# Altium schematic symbol library PVV.SchLib: 80 symbols
Pins are listed as number, name and electrical type; pins without a type are passive.

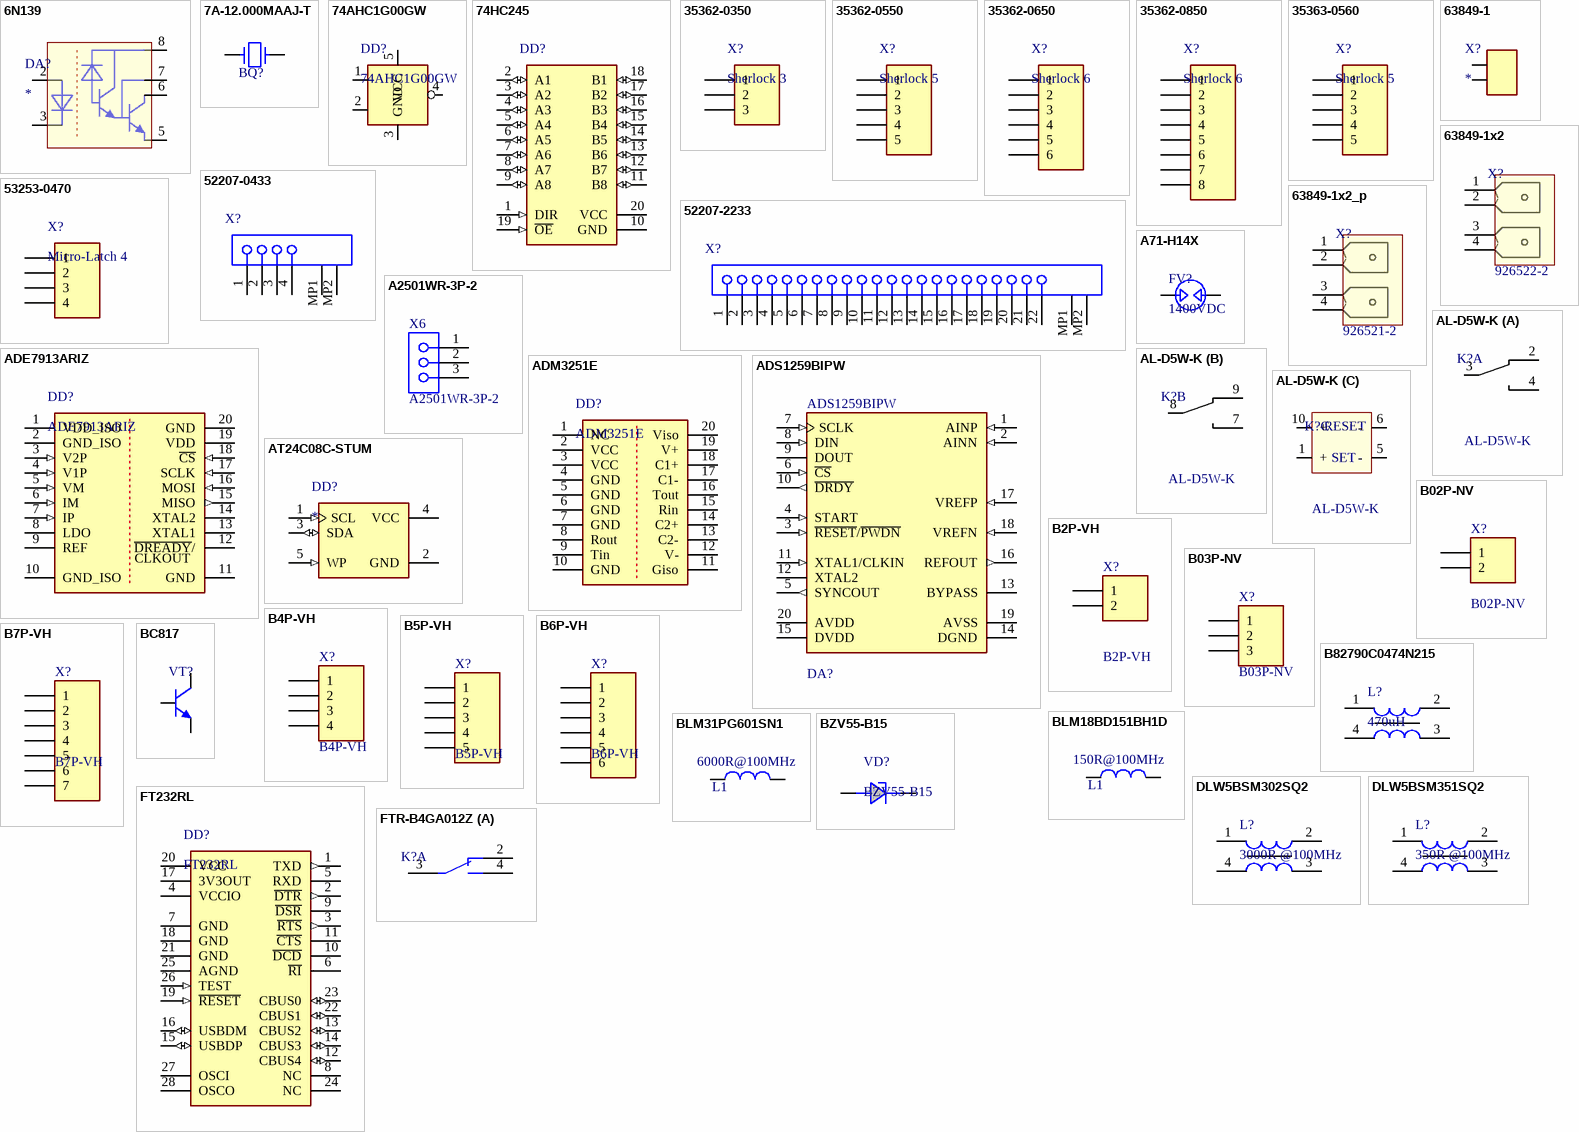
[diagram p0: symbols 6N139 to FTR-B4GA012Z]

## 6N139
designator DA?
Optocoupler  darlingron 5.3kV 100 kbit/s; Manufacturer: VISHAY; PartNumber: 6N139
footprint DIP8
pins: 2 ANODE, 3 CATHODE, 5 GND, 6 V0, 7 VB, 8 VCC

## 7A-12.000MAAJ-T
designator BQ?, comment 12MHz  (value not drawn)
12MHz Quartz Crystal 7A; PartNumber: 7A-12.000MAAJ-T; Manufacturer: TXC; Value: 12MHz
footprint DFN390P500X135-2N (DFN, 2-Leads, Body 3,20x5,00mm, Pitch 3,90mm, Quartz Crystal)
pins: 1, 2

## 74AHC1G00GW
designator DD?
2 Input NAND Gate; Manufacturer: neXperia; PartNumber: 74AHC1G00GW
footprint SOT353-1 (SOT353-1, 5-Leads, Body 2,05x2,13mm, Pitch 0,65mm, IPC Medium Density)
pins: 1, 2, 3 GND, 4, 5 VCC
text: &

## 74HC245
designator DD?
Octal Bus Transceivers With 3-State Outputs, PW0020A; Manufacturer: Texas Instruments; PartNumber: SN74HC245PW; VCC(Min)(V): 2; VCC(Max)(V): 6; Output Type: CMOS; ICC @ Nom Voltage(Max)(mA): 0.08; Bits(#): 8; F @ Nom Voltage(Max)(Mhz): 28; Rating: Catalog; Technology Family: HC; Schmitt Trigger: No; Output Drive (IOL/IOH)(Max)(mA): -6/6; tpd @ Nom Voltage(Max)(ns): 22; DatasheetVersion: SCLS131D; PackageReference: PW0020A; Input Type: CMOS; Operating Temperature Range(C): -40 to 85; Voltage(Nom)(V): 6
footprint PW0020A_M (SOP, 20-Leads, Body 6.6x4.5mm, Pitch 0.65mm, IPC Low Density)
pins: 1 DIR (in), 2 A1 (io), 3 A2 (io), 4 A3 (io), 5 A4 (io), 6 A5 (io), 7 A6 (io), 8 A7 (io), 9 A8 (io), 10 GND (power), 11 B8 (io), 12 B7 (io), 13 B6 (io), 14 B5 (io), 15 B4 (io), 16 B3 (io), 17 B2 (io), 18 B1 (io), 19 ~{OE} (in), 20 VCC (power)

## 35362-0350
designator X?, comment Sherlock 3
Sherlock 3 Top, 2A 125V 2mm; PartNumber: 35362-0350; Manufacturer: MOLEX
footprint 35362-0350 (Sherlock 3)
pins: 1, 2, 3

## 35362-0550
designator X?, comment Sherlock 5
Sherlock 5 Top, 2A 125V 2mm; PartNumber: 35362-0550; Manufacturer: MOLEX; ComponentLink1Description: Datasheet; ComponentLink1URL: \\NAS1\DataSheet\7534\PCBvert.pdf
footprint 35362-0550
pins: 1, 2, 3, 4, 5

## 35362-0650
designator X?, comment Sherlock 6
Sherlock 6 Top, 2A 125V 2mm; PartNumber: 35362-0650; Manufacturer: MOLEX
footprint 35362-0650 (Sherlock 6 конт LS=2 2A 125V PCB)
pins: 1, 2, 3, 4, 5, 6

## 35362-0850
designator X?, comment Sherlock 6
Sherlock 8 Top, 2A 125V 2mm; PartNumber: 35362-0850; Manufacturer: MOLEX
footprint 35362-0850 (Sherlock 8 конт LS=2 2A 125V PCB)
pins: 1, 2, 3, 4, 5, 6, 7, 8

## 35363-0560
designator X?, comment Sherlock 5
Sherlock 5 Side, 2A 125V 2mm; PartNumber: 35363-0560; Manufacturer: MOLEX; ComponentLink1Description: Datasheet; ComponentLink1URL: \\NAS1\DataSheet\7854\0353630560_PCB_HEADERS.pdf; ComponentLink2URL: \\NAS1\DataSheet\7854\353630560_sd.pdf; ComponentLink2Description: Datasheet2
footprint SOD-123 (Molded Diode, 2-Leads, Body 3,71x1,60mm)
pins: 1, 2, 3, 4, 5

## 52207-0433
designator X?
1.0 mm Pitch, 4 Circuits, FPC Connector, Right Angle, ZIF, SMT; Manufacturer: Molex; PartNumber: 52207-0433
footprint MOLX-52207-0433 (FPC Connector, 4-Leads, Right Angle, Pitch 1.0 mm, Mated Height 2.7 mm, SMT)
pins: 1, 2, 3, 4, MP1, MP2

## 52207-2233
designator X?
1.0 mm Pitch, 22 Circuits, FPC Connector, Right Angle, ZIF, SMT; Manufacturer: Molex; PartNumber: 52207-2233
footprint MOLX-52207-2233 (FPC Connector, 22-Leads, Right Angle, Pitch 1.0 mm, Mated Height 2.7 mm, SMT)
pins: 1, 2, 3, 4, 5, 6, 7, 8, 9, 10, 11, 12, 13, 14, 15, 16, 17, 18, 19, 20, 21, 22, MP1, MP2

## 53253-0470
designator X?, comment Micro-Latch 4
Micro-Latch 4  LS=2 2A 125V PCB; PartNumber: 53253-0470; Manufacturer: MOLEX
footprint 53253-0470
pins: 1, 2, 3, 4

## 63849-1
designator X?
PCB mount, 6.3x0.8; Manufacturer: TE Connectivity; PartNumber: 63849-1
footprint 63849-1
pins: 1, 2

## 63849-1x2
designator X?, comment 926522-2
DUAL TAB FASTON PCB (926522-2); PartNumber: 63849-1x2; Manufacturer: TE Connectivity; Value: 926522-2
footprint 63849-1x2
pins: 1, 2, 3, 4
1 alternate drawing of the same symbol

## 63849-1x2_p
designator X?, comment 926521-2
DUAL TAB FASTON PCB (926521-2); PartNumber: 63849-1x2; Manufacturer: TE Connectivity; Value: 926521-2
footprint 63849-1x2_p (DUAL TAB FASTON PCB (926521-2))
pins: 1, 2, 3, 4
1 alternate drawing of the same symbol

## A71-H14X
designator FV?, comment 1400VDC
1400V 12A Gas Discharge Tube; Manufacturer: EPCOS; PartNumber: A71-H14X
footprint CG_L
pins: 1, 2

## A2501WR-3P-2
designator X6
3A 250V 2.5mm (Analog JST S3B-XH-A-1); Manufacturer: JOINT TECH; PartNumber: A2501WR-3P-2
footprint S3B-XH-A-1
pins: 1, 2, 3

## ADE7913ARIZ
designator DD?
Isolated, Sigma-Delta ADC with SPI; Manufacturer: Analog Device; PartNumber: ADE7913ARIZ
footprint SOIC20(RI-20-1) (SOIC, 20-Leads, Body 15,30x7,50mm, Pitch 1,27mm)
pins: 1 VDD_ISO (power), 2 GND_ISO (power), 3 V2P (in), 4 V1P (in), 5 VM (in), 6 IM (in), 7 IP (in), 8 LDO, 9 REF, 10 GND_ISO (power), 11 GND (power), 12 ~{DREADY}/, 13 XTAL1, 14 XTAL2, 15 MISO (out), 16 MOSI (in), 17 SCLK (in), 18 ~{CS} (in), 19 VDD (power), 20 GND (power)
text: CLKOUT

## ADM3251E
designator DD?
Isolated, Single-Channel, RS-232 Line Driver/Receiver; Manufacturer: Analog Device; PartNumber: ADM3251EARWZ
footprint SOIC20(RW-20) (SOIC, 20-Leads, Body 12,80x7,50mm, Pitch 1,27mm, IPC Low Density)
pins: 1 NC, 2 VCC (power), 3 VCC (power), 4 GND (power), 5 GND (power), 6 GND (power), 7 GND (power), 8 Rout, 9 Tin, 10 GND (power), 11 Giso, 12 V-, 13 C2-, 14 C2+, 15 Rin, 16 Tout, 17 C1-, 18 C1+, 19 V+, 20 Viso

## ADS1259BIPW
designator DA?
Part Number: ADS1259BIPW
footprint ADS1259BIPW_Level B (TSSOP-20)
pins: 1 AINP (in), 2 AINN (in), 3 ~{RESET}/~{PWDN} (in), 4 START (in), 5 SYNCOUT (out), 6 ~{CS} (in), 7 SCLK (in), 8 DIN (in), 9 DOUT (hiz), 10 ~{DRDY} (out), 11 XTAL1/CLKIN (in), 12 XTAL2, 13 BYPASS, 14 DGND (power), 15 DVDD (power), 16 REFOUT (out), 17 VREFP (in), 18 VREFN (in), 19 AVSS (power), 20 AVDD (power)

## AL-D5W-K
designator K?
125VAC 2A DPDT 5VDC Latch; Manufacturer: TE Connectivity; PartNumber: AL-D5W-K; Value: AL-D5W-K
footprint AL-D5W-K
part A pins: 2, 3, 4
part B pins: 7, 8, 9
part C pins: 1 +, 5 -, 6 -, 10 +
1 alternate drawing of the same symbol
part C text: RESET; SET

## AT24C08C-STUM
designator DD?
I2C Serial EEPROM, 8-Kbit (1024 x 8); PartNumber: AT24C08C-STUM-T; Manufacturer: ATMEL; ComponentLink1Description: Datasheet; ComponentLink1URL: \\NAS1\DataSheet\9589\AT24C08C.pdf
footprint 5TS1 (SOT23, 5-Leads, Body 2,90x2,80mm, Pitch 0,95mm, IPC Medium Density)
pins: 1 SCL (in), 2 GND (power), 3 SDA (io), 4 VCC (power), 5 WP (in)

## B02P-NV
designator X?
NV 2 LS=5.0 10A 250V PCB; Manufacturer: JST; PartNumber: B02P-NV
footprint B02P-NV
pins: 1, 2

## B2P-VH
designator X?
VH Top, 10A 250V 3.96mm; Manufacturer: JST; PartNumber: B2P-VH
footprint B2P-VH
pins: 1, 2

## B03P-NV
designator X?
NV 3 LS=5.0 10A 250V PCB; Manufacturer: JST; PartNumber: B03P-NV
footprint B03P-NV
pins: 1, 2, 3

## B4P-VH
designator X?
VH Top, 10A 250V 3.96mm; Manufacturer: JST; PartNumber: B4P-VH
footprint B4P-VH
pins: 1, 2, 3, 4

## B5P-VH
designator X?
VH Top, 10A 250V 3.96mm; Manufacturer: JST; PartNumber: B5P-VH
footprint B5P-VH
pins: 1, 2, 3, 4, 5

## B6P-VH
designator X?
VH Top, 10A 250V 3.96mm; Manufacturer: JST; PartNumber: B6P-VH
footprint B6P-VH
pins: 1, 2, 3, 4, 5, 6

## B7P-VH
designator X?
VH Top, 10A 250V 3.96mm; Manufacturer: JST; PartNumber: B7P-VH
footprint B7P-VH
pins: 1, 2, 3, 4, 5, 6, 7

## B82790C0474N215
designator L?, comment 470uH
470uH 0.5A 0.17R common mode; PartNumber: B82790C0474N215; Manufacturer: EPCOS; Value: 470uH
footprint SMD_L (B82790)
pins: 1, 2, 3, 4

## BC817
designator VT?
NPN Silicon, 3-Pin SOT-23; Manufacturer: NXP; PartNumber: BC817
footprint SOT-23-3 (SOT23, 3-Leads, Body 2.92x1.3mm, Pitch 0.95mm)
pins: 1 B, 2 E, 3 C

## BLM18BD151BH1D
designator L1, comment 150R@100MHz
EMI Filter Bead; Manufacturer: MURATA; PartNumber: BLM18BD151BH1D
footprint SMD_L_0603 (Chip Ferrite, 2-Leads, Body 1,60x0,80mm, IPC Low Density)
pins: 1, 2

## BLM31PG601SN1
designator L1, comment 6000R@100MHz
600R 1.5A (100MHz); Manufacturer: MURATA; PartNumber: BLM31PG601SN1
footprint SMD_L_1206 (Chip Inductor, 2-Leads, Body 3,20x1,60mm, IPC Low Density)
pins: 1, 2

## BZV55-B15
designator VD?
Volt. regul. diode, 0.5W 15V 2%; Manufacturer: NXP; PartNumber: BZV55-B15; ComponentLink1Description: Datasheet; ComponentLink1URL: \\NAS1\DataSheet\5646\BZV55_SER.pdf
footprint SOD80C (MELF Diode, 2-Leads, Body 3,50x1,53mm, IPC Low Density)
pins: 1 ANODE, 2 CATHODE

## DLW5BSM302SQ2
designator L?, comment 3000R @100MHz
3000R (100MHz) 0.5A 0.3R; PartNumber: DLW5BSM302SQ2; Manufacturer: muRata; Value: 3000R @100MHz
footprint DLW5BS (Common Mode Coil)
pins: 1, 2, 3, 4

## DLW5BSM351SQ2
designator L?, comment 350R @100MHz
350R (100MHz) 2A 0.04R; PartNumber: DLW5BSM351SQ2; Manufacturer: muRata; Value: 350R @100MHz
footprint DLW5BS (Common Mode Coil)
pins: 1, 2, 3, 4

## FT232RL
designator DD?
USB UART Asynchronous Serial Data Transfer Chip, 28-pin SSOP; Manufacturer: FTDI; PartNumber: FT232RL
footprint SSOP-28_M (SOP, 28-Leads, Body 10.2x5.3mm, Pitch 0.65mm, IPC Low Density)
pins: 1 TXD (out), 2 ~{DTR} (out), 3 ~{RTS} (out), 4 VCCIO (power), 5 RXD, 6 ~{RI}, 7 GND (power), 8 NC, 9 ~{DSR}, 10 ~{DCD}, 11 ~{CTS}, 12 CBUS4 (io), 13 CBUS2 (io), 14 CBUS3 (io), 15 USBDP (io), 16 USBDM (io), 17 3V3OUT, 18 GND (power), 19 ~{RESET} (in), 20 VCC (power), 21 GND (power), 22 CBUS1 (io), 23 CBUS0 (io), 24 NC, 25 AGND (power), 26 TEST (in), 27 OSCI, 28 OSCO

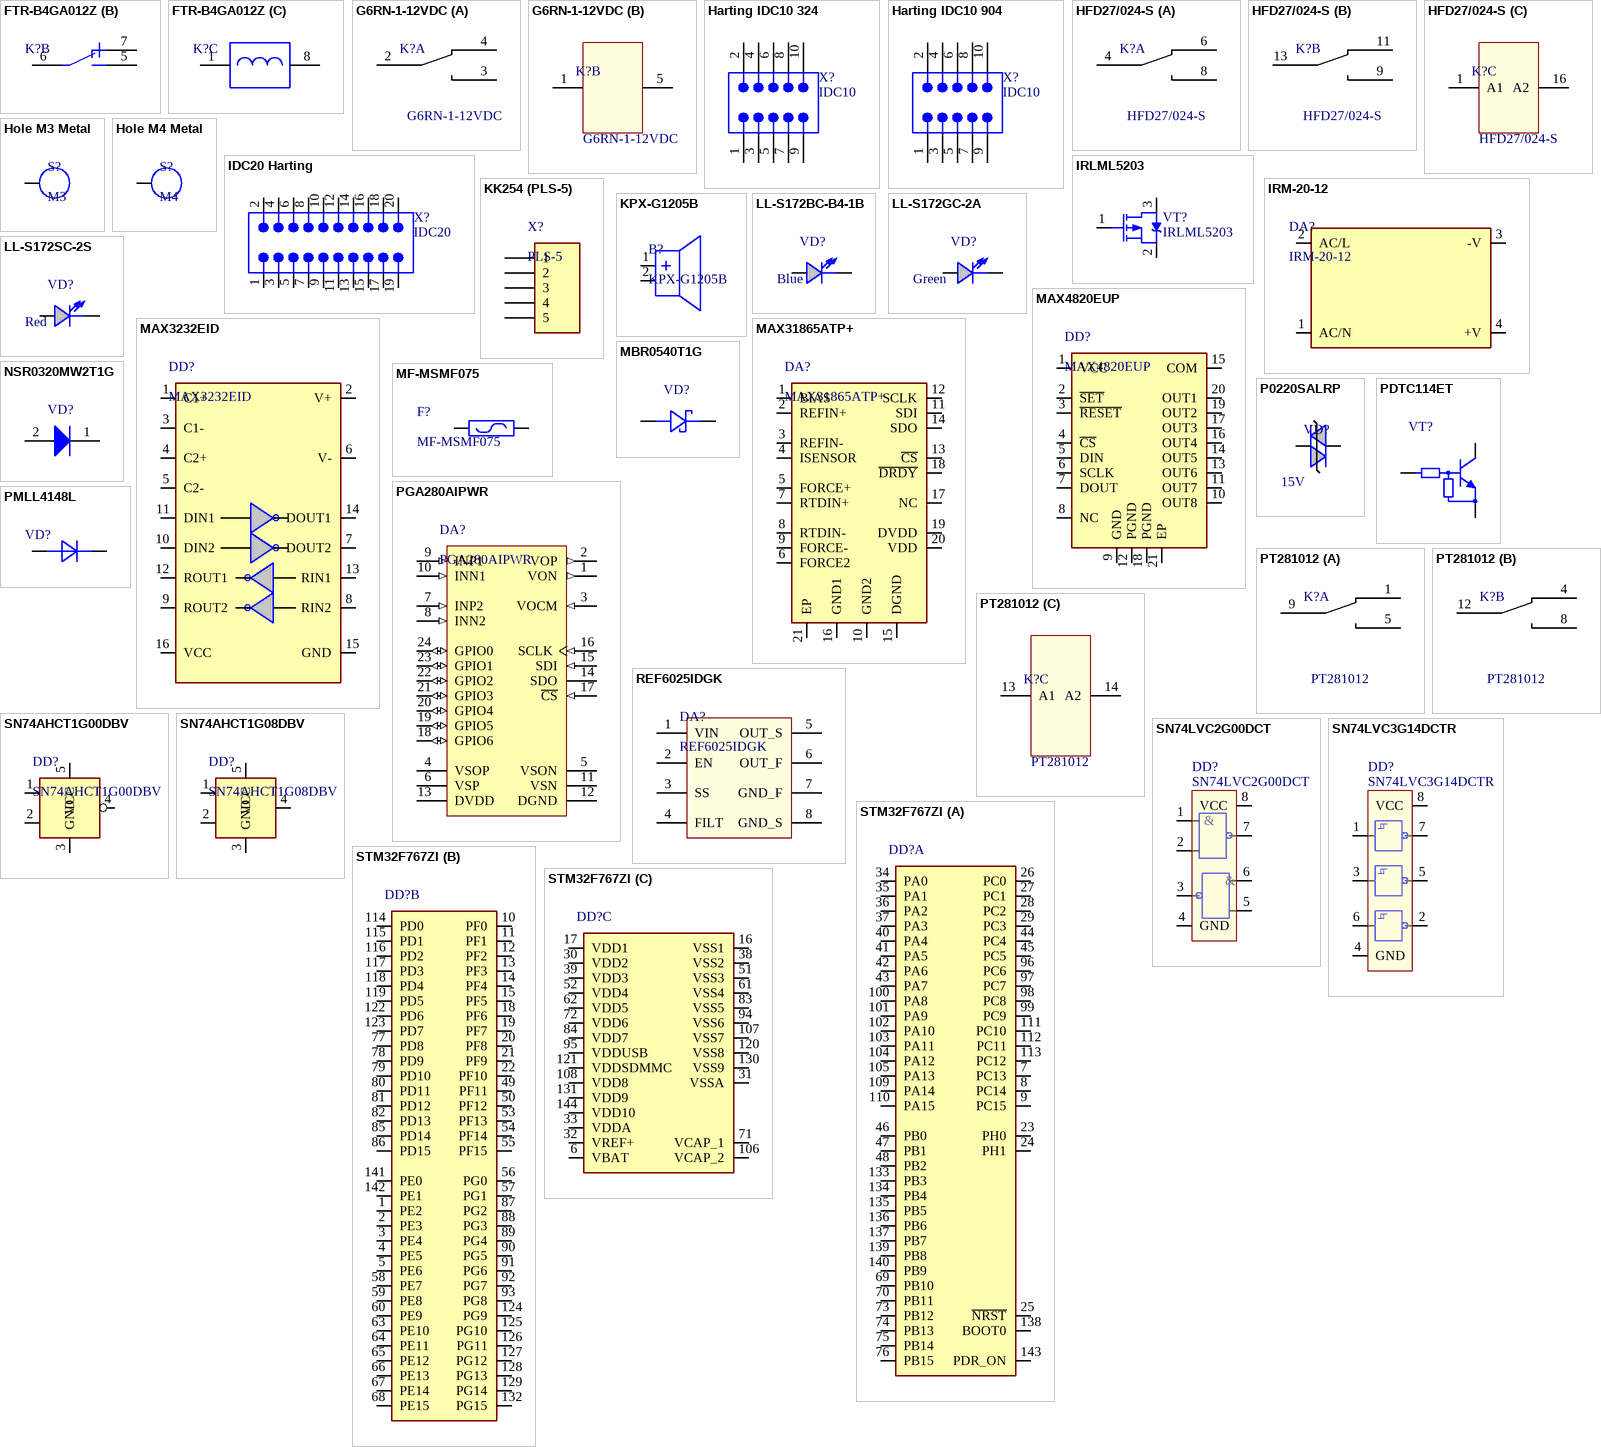
[diagram p1: symbols FTR-B4GA012Z to STM32F767ZI]

## FTR-B4GA012Z
designator K?
250VAC 1A DPDT 12VDC; PartNumber: FTR-B4GA012Z; Manufacturer: Fujitsu
footprint FTR-B4GA
part A pins: 2, 3, 4
part B pins: 5, 6, 7
part C pins: 1, 8

## G6RN-1-12VDC
designator K?
250VAC 8A SPDT 12VDC; Manufacturer: OMRON; PartNumber: G6RN-1-12VDC; Value: G6RN-1-12VDC
footprint G6RN
part A pins: 2, 3, 4
part B pins: 1, 5
1 alternate drawing of the same symbol

## Harting IDC10 324
designator X?, comment IDC10
Flat Cable Connector (IDC), Low-Profile Male Header, Straight Solder Pin, 10 Contacts, Performance Level 2; PartNumber: 09185106324; PCB_Layout: Complies with manufacturer's recommendation.; DrillSize: Corresponds to nominal value.; Published: 15-Nov-2004; DatasheetDocument: Sep-2003; PackageDocument: 03-Jun-2003; PackageReference: 918510x324; Publisher: Altium Limited; ComponentLink1Description: Manufacturer Link; ComponentLink1URL: http://www.harting.com/; ComponentLink2Description: Selection Guide; ComponentLink2URL: http://www.harting.com/imperia/md/content/steckverbinderundsystemkomponenten/folder/interface_engl_chapter_09.pdf
footprint 918510x324 (Connector; IDC, Low Profile Male Header, Thru-Hole; 10 Position; Vertical; Pitch 2.54 mm; Body 20.32 x 9.2 x 9.45 mm (LxWxH))
pins: 1, 2, 3, 4, 5, 6, 7, 8, 9, 10

## Harting IDC10 904
designator X?, comment IDC10
Flat Cable Connector (IDC), Standard Male Header, Straight Solder Pin, 10 Contacts, Long Levers, Performance Level 2; PartNumber: 09 18 510 6904; PCB_Layout: Complies with manufacturer's recommendation.; DrillSize: Corresponds to nominal value.; Published: 15-Nov-2004; DatasheetDocument: Sep-2003; PackageDocument: Jun-2000; PackageReference: 918510x904; Publisher: Altium Limited; ComponentLink1Description: Manufacturer Link; ComponentLink1URL: http://www.harting.com/; ComponentLink2Description: Selection Guide; ComponentLink2URL: http://www.harting.com/imperia/md/content/steckverbinderundsystemkomponenten/folder/interface_engl_chapter_09.pdf
footprint 918510x904 (Connector; IDC, Thru-Hole; 10 Position; Vertical; Pitch 2.54 mm; Body 32.30 x 8.5 x 25.75 mm (LxWxH), Locking levers)
pins: 1, 2, 3, 4, 5, 6, 7, 8, 9, 10

## HFD27/024-S
designator K?
240VAC 2A DPDT 24VDC; Manufacturer: Hongfa; PartNumber: HFD27/024-S; Value: HFD27/024-S
footprint HFD27
part A pins: 4, 6, 8
part B pins: 9, 11, 13
part C pins: 1 A1, 16 A2
1 alternate drawing of the same symbol

## Hole M3 Metal
designator S?, comment M3  (no BOM)
Hole M3 Metal; Value: M3
footprint Hole M3 Metal (Hole 3.3 metal 8)
pins: 1

## Hole M4 Metal
designator S?, comment M4  (no BOM)
Hole M4 Metal; Value: M4
footprint Hole M4 Metal (Hole 4.3 metal 10)
pins: 1

## IDC20 Harting
designator X?, comment IDC20
Flat Cable Connector (IDC), Low-Profile Male Header, Straight Solder Pin, 20 Contacts, Performance Level 2; PartNumber: 09185206904; PCB_Layout: Complies with manufacturer's recommendation.; DrillSize: Corresponds to nominal value.; Published: 15-Nov-2004; DatasheetDocument: Sep-2003; PackageDocument: 01-Feb-2000; PackageReference: 918520x324; Publisher: Altium Limited; ComponentLink1Description: Manufacturer Link; ComponentLink1URL: http://www.harting.com/; ComponentLink2Description: Selection Guide; ComponentLink2URL: http://www.harting.com/imperia/md/content/steckverbinderundsystemkomponenten/folder/interface_engl_chapter_09.pdf
footprint 918520x324 (Connector; IDC, Low Profile Male Header, Thru-Hole; 20 Position; Vertical; Pitch 2.54 mm; Body 33.02 x 9.2 x 9.45 mm (LxWxH))
pins: 1, 2, 3, 4, 5, 6, 7, 8, 9, 10, 11, 12, 13, 14, 15, 16, 17, 18, 19, 20

## IRLML5203
designator VT?
P-Channel -30V -3A 0.165R; Manufacturer: International Rectif; PartNumber: IRLML5203
footprint SOT23 (Micro3) (SOT23, 3-Leads, Body 2,86x2,30mm, Pitch 0,95mm, IPC Medium Density)
pins: 1 G, 2 S, 3 D

## IRM-20-12
designator DA?
20W 12VDC 1.8A PCB; Manufacturer: Mean Well; PartNumber: IRM-20-12
footprint IRM-20 (20W PCB)
pins: 1 AC/N, 2 AC/L, 3 -V, 4 +V

## KK254 (PLS-5)
designator X?, comment PLS-5
KK254 42375 36 конт LS=2.54 4A 250VDC PCB (PLS-36); Manufacturer: MOLEX; PartNumber: 22-28-4360
footprint PLS-5
pins: 1, 2, 3, 4, 5

## KPX-G1205B
designator B?
Magnetic Buzzer; Manufacturer: KEPO; PartNumber: KPX-G1205B
footprint KPX-G12
pins: 1 +, 2 -

## LL-S172BC-B4-1B
designator VD?  value Blue
LED Blue SMD; PartNumber: LL-S172BC-B4-1B; Manufacturer: Lucky Light
footprint SMD_LED_LL_BLUE (Chip Diode, 2-Leads, Body 2,00x1,25mm, IPC Low Density)
pins: 1 ANODE, 2 CATHODE

## LL-S172GC-2A
designator VD?  value Green
LED Green SMD; PartNumber: LL-S172GC-2A; Manufacturer: Lucky Light
footprint SMD_LED_LL_GREEN (Chip Diode, 2-Leads, Body 2,00x1,25mm, IPC Low Density)
pins: 1 ANODE, 2 CATHODE

## LL-S172SC-2S
designator VD?  value Red
LED Red SMD; PartNumber: LL-S172SC-2S; Manufacturer: Lucky Light
footprint SMD_LED_LL_RED (Chip Diode, 2-Leads, Body 2,00x1,25mm, IPC Low Density)
pins: 1 ANODE, 2 CATHODE

## MAX3232EID
designator DD?
RS-232 Transceivers 3/5.5V ESD; Manufacturer: Texas Instruments; PartNumber: MAX3232EID
footprint SOIC16 (SOIC, 16-Leads, Body 9,90x3,90mm, Pitch 1,27mm, IPC Medium Density)
pins: 1 C1+, 2 V+, 3 C1-, 4 C2+, 5 C2-, 6 V-, 7 DOUT2, 8 RIN2, 9 ROUT2, 10 DIN2, 11 DIN1, 12 ROUT1, 13 RIN1, 14 DOUT1, 15 GND, 16 VCC

## MAX4820EUP
designator DD?
Relay Driver 3.3/5V; Manufacturer: Maxim Integrated; PartNumber: MAX4820EUP
footprint TSSOP 20 Thermal Pad (TSOP, 20-Leads, Body 6,50x4,40mm, Pitch 0,65mm, Thermal Pad 4,20x3,10mm, IPC Medium Density)
pins: 1 VCC, 2 ~{SET}, 3 ~{RESET}, 4 ~{CS}, 5 DIN, 6 SCLK, 7 DOUT, 8 NC, 9 GND, 10 OUT8, 11 OUT7, 12 PGND, 13 OUT6, 14 OUT5, 15 COM, 16 OUT4, 17 OUT3, 18 PGND, 19 OUT2, 20 OUT1, 21 EP

## MAX31865ATP+
designator DA?
RTD-to-Digital converter 100R/1k; Manufacturer: Maxim Integrated; PartNumber: MAX31865ATP+
footprint QFN20 (T2055) (QFN, 20-Leads, Body 5,00x5,00mm, Pitch 0,65mm, Thermal Pad 3,25x3,25mm, IPC Medium Density)
pins: 1 BIAS, 2 REFIN+, 3 REFIN-, 4 ISENSOR, 5 FORCE+, 6 FORCE2, 7 RTDIN+, 8 RTDIN-, 9 FORCE-, 10 GND2, 11 SDI, 12 SCLK, 13 ~{CS}, 14 SDO, 15 DGND, 16 GND1, 17 NC, 18 ~{DRDY}, 19 DVDD, 20 VDD, 21 EP

## MBR0540T1G
designator VD?  (value not drawn)
0.5A/40V Schottky Diode (SOD-123); Manufacturer: ON Semiconductor; PartNumber: MBR0540T
footprint SOD-123 (Molded Diode, 2-Leads, Body 3,71x1,60mm)
pins: 1 Cathode, 2 Anode

## MF-MSMF075
designator F?
1.5A 13VDC 0.45R; Manufacturer: BOURNS; PartNumber: MF-MSMF075
footprint MF-MSMF_0
pins: 1, 2

## NSR0320MW2T1G
designator VD?  (value not drawn)
Schottky Barrier Diode, 2-Pin SOD-323, Pb-Free, Tape and Reel; Manufacturer: On Semiconductor; IFSM Max (A): 5; Configuration: Single; ComponentLink1Description: Manufacturer URL; ComponentLink2Description: Datasheet; PartNumber: NSR0320MW2T1G; DatasheetVersion: Rev. 4; Mounting Technology: Surface Mount; ComponentLink3URL: http://www.onsemi.com/pub_link/Collateral/477-02.PDF.1; ComponentLink3Description: Package Specification; ComponentLink1URL: http://www.onsemi.com/; Packing: Tape and Reel; PackageVersion: Rev. H, 03/2007; PackageDescription: 2-Pin SOD, Body 1.7 x 1.25 mm; ComponentLink2URL: http://www.onsemi.cn/pub_link/Collateral/NSR0320MW2T1-D.PDF; RoHS: TRUE; PackageReference: SOD-323-2-477-02
footprint SOD-323-2-477-02_V (SOD, 2-Leads, Body 1.7x1.25mm)
pins: 1 K, 2 A

## P0220SALRP
designator VD?  value 15V  (hidden comment: P0220SALRP)
15V@5uA (Trisil); Manufacturer: Littelfuse; PartNumber: P0220SALRP
footprint DO-214AA (Molded Diode, 2-Leads, Body 4,32x3,63mm, IPC Low Density)
pins: 1, 2

## PDTC114ET
designator VT?
Digital Transistor (BRT), R1=10 kOhm, R2=10 kOhm, NPN Transistor; Manufacturer: On Semiconductor; PartNumber: PDTC114ET
footprint SOT-23-3 (SOT23, 3-Leads, Body 2.92x1.3mm, Pitch 0.95mm)
pins: 1 B, 2 E, 3 C

## PGA280AIPWR
designator DA?
Zero Drift, HV Programmable Gain Amplifier, -40 to 105 degC, 24-pin SOP (PW24), Green (RoHS & no Sb/Br); Manufacturer: Texas Instruments; Slew Rate(Typ)(V/us): 1; Settling Time to 0.01%(Typ)(us): 40; Quiescent Current (+/-)(Typ)(mA): 0.07; Noise at 1kHz(Typ)(nV/rt(Hz)): 22; Vs(Max)(V): 36; Gain(V/V): 1/8 to 128; Input Offset Drift (+/-)(Max)(uV/Degrees Celsius): 0.17; Input Bias Current (+/-)(Max)(nA): 2; Input Offset (+/-)(Max)(uV): 15; Vs(Min)(V): 10; Eco-Plan: Green (RoHS & no Sb/Br); PartNumber: PGA280AIPWR; SubFamily: Programmable Gain Amplifier; ComponentLink1Description: Manufacturer URL; ComponentLink2Description: Datasheet; DatasheetVersion: SBOS487A; ComponentLink3URL: http://www.ti.com/litv/pdf/mpds363; ComponentLink1URL: http://www.ti.com/; Code_JEDEC: MO-153; ComponentLink2URL: http://www.ti.com/general/docs/lit/getliterature.tsp?genericPartNumber=PGA280&fileType=pdf; ComponentLink3Description: Package Specification; PackageVersion: 4040064-6/G, 02/2011; Mounting Technology: Surface Mount; PackageReference: PW24; PackageDescription: 24-Pin Plastic Small Outline, Body 7.8 x 4.4 mm, Pitch 0.65 mm
footprint TI-PW24_M (SOP, 24-Leads, Body 7.8x4.4mm, Pitch 0.65mm, IPC Low Density)
pins: 1 VON (out) "Inverting signal output", 2 VOP (out) "Noninverting signal output", 3 VOCM (in) "Input, output common-mode voltage", 4 VSOP (power) "Positive supply for output", 5 VSON (power) "Negative supply for output, AGND", 6 VSP (power) "Positive high-voltage supply", 7 INP2 (in) "AUX input, noninverting", 8 INN2 (in) "AUX input, inverting", 9 INP1 (in) "Signal input, noninverting", 10 INN1 (in) "Signal input, inverting", 11 VSN (power) "Negative high-voltage supply", 12 DGND (power) "Digital ground", 13 DVDD (power) "Digital supply", 14 SDO (hiz) "SPI slave data output", 15 SDI (in) "SPI slave data input", 16 SCLK (in) "SPI clock input", 17 ~{CS} (in) "SPI chip select input; active low", 18 GPIO6 (io) "GPIO 6, SYNC (in), OSC (out), E\C\S\6", 19 GPIO5 (io) "GPIO 5, BUFA (out), E\C\S\5", 20 GPIO4 (io) "GPIO 4, BUFT (in), E\C\S\4", 21 GPIO3 (io) "GPIO 3, EF (out), E\C\S\3", 22 GPIO2 (io) "GPIO 2, E\C\S\2, MUX2", 23 GPIO1 (io) "GPIO 1, E\C\S\1, MUX1", 24 GPIO0 (io) "GPIO 0, E\C\S\0, MUX0"

## PMLL4148L
designator VD?  (value not drawn)
SMD Diod Vr=75V If=0.2A; Manufacturer: NXP; PartNumber: PMLL4148L
footprint SOD80C (MELF Diode, 2-Leads, Body 3,50x1,53mm, IPC Low Density)
pins: 1 ANODE, 2 CATHODE

## PT281012
designator K?
400VAC 12A DPDT 12VDC; PartNumber: 8-1415005-1; Manufacturer: TE Connectivity; Value: PT281012
footprint PT281024 (Footprint not found)
part A pins: 1 12, 5 14, 9 11
part B pins: 4 42, 8 44, 12 41
part C pins: 13 A1, 14 A2
1 alternate drawing of the same symbol

## REF6025IDGK
designator DA?
Voltage Reference 2.5V 5ppm/C; Part Number: REF6025IDGK
footprint VSOP-8 SOP127P600-8N (VSOP-8)
pins: 1 VIN, 2 EN, 3 SS, 4 FILT, 5 OUT_S, 6 OUT_F, 7 GND_F, 8 GND_S

## SN74AHCT1G00DBV
designator DD?
2-in NAND; Manufacturer: Texas Instruments; PartNumber: SN74AHCT1G00DBV
footprint SOT-23(DBV) (SOT23, 5-Leads, Body 2,90x2,80mm, Pitch 0,95mm, IPC Medium Density)
pins: 1, 2, 3 GND, 4, 5 VCC
text: &

## SN74AHCT1G08DBV
designator DD?
2-in AND; Manufacturer: Texas Instruments; PartNumber: SN74AHCT1G08DBV
footprint SOT-23(DBV) (SOT23, 5-Leads, Body 2,90x2,80mm, Pitch 0,95mm, IPC Medium Density)
pins: 1, 2, 3 GND, 4, 5 VCC
text: &

## SN74LVC2G00DCT
designator DD?  Part Number: SN74LVC2G00DCT
IC GATE NAND 2CH 2-INP SM8; Manufacturer: Texas Instruments; helpURL: https://upverter.com/upn/revision/0fe3ab534f581413/; ComponentLink2Description: Datasheet; Temperature: -40°C to +125°C; Package: SM8; Supplier 2: Mouser; Price: 0.43940637551; Supplier 1: Digi-Key; ComponentLink1URL: https://upverter.com/upn/revision/0fe3ab534f581413/; Supplier Part Number 2: 595-SN74LVC2G00DCTR; Supplier Part Number 1: 296-13257-1-ND; ComponentLink1Description: Upverter; ComponentLink2URL: http://www.ti.com/lit/ds/symlink/sn74lvc2g00.pdf; RoHS: TRUE; Mouser Part Number: 595-SN74LVC2G00DCTR; Temperature Range High: +125°C; Digikey Description: IC GATE NAND 2CH 2-INP SM8; Digikey Part Number: 296-13257-1-ND; Lead Free: yes; Temperature Range Low: -40°C
footprint SM8 (Texas_Instruments_SN74LVC2G00DCTR_0)
pins: 1 1A, 2 1B, 3 2Y, 4 GND, 5 2B, 6 2A, 7 1Y, 8 VCC
text: &

## SN74LVC3G14DCTR
designator DD?  Part Number: SN74LVC3G14DCTR
INVERTOR 3CH 2-INP SM8; Temperature: -40°C to +125°C; Package: SM8; Temperature Range High: +125°C; Temperature Range Low: -40°C
footprint SM8 (Texas_Instruments_SN74LVC2G00DCTR_0)
pins: 1 1A, 2 3Y, 3 2A, 4 GND, 5 2Y, 6 3A, 7 1Y, 8 VCC

## STM32F767ZI
designator DD?
32-bit ARM Cortex-M7 MCU+FPU; Manufactorer: ST; PartNumber: STM32F767ZI
footprint SOT486-1_V (Thin QFP, 144-Leads, Body 20x20mm, Pitch 0.5mm, NXP Recommended)
part A pins: 7 PC13, 8 PC14, 9 PC15, 23 PH0, 24 PH1, 25 ~{NRST}, 26 PC0, 27 PC1, 28 PC2, 29 PC3, 34 PA0, 35 PA1, 36 PA2, 37 PA3, 40 PA4, 41 PA5, 42 PA6, 43 PA7, 44 PC4, 45 PC5, 46 PB0, 47 PB1, 48 PB2, 69 PB10, 70 PB11, 73 PB12, 74 PB13, 75 PB14, 76 PB15, 96 PC6, 97 PC7, 98 PC8, 99 PC9, 100 PA8, 101 PA9, 102 PA10, 103 PA11, 104 PA12, 105 PA13, 109 PA14, 110 PA15, 111 PC10, 112 PC11, 113 PC12, 133 PB3, 134 PB4, 135 PB5, 136 PB6, 137 PB7, 138 BOOT0, 139 PB8, 140 PB9, 143 PDR_ON
part B pins: 1 PE2, 2 PE3, 3 PE4, 4 PE5, 5 PE6, 10 PF0, 11 PF1, 12 PF2, 13 PF3, 14 PF4, 15 PF5, 18 PF6, 19 PF7, 20 PF8, 21 PF9, 22 PF10, 49 PF11, 50 PF12, 53 PF13, 54 PF14, 55 PF15, 56 PG0, 57 PG1, 58 PE7, 59 PE8, 60 PE9, 63 PE10, 64 PE11, 65 PE12, 66 PE13, 67 PE14, 68 PE15, 77 PD8, 78 PD9, 79 PD10, 80 PD11, 81 PD12, 82 PD13, 85 PD14, 86 PD15, 87 PG2, 88 PG3, 89 PG4, 90 PG5, 91 PG6, 92 PG7, 93 PG8, 114 PD0, 115 PD1, 116 PD2, 117 PD3, 118 PD4, 119 PD5, 122 PD6, 123 PD7, 124 PG9, 125 PG10, 126 PG11, 127 PG12, 128 PG13, 129 PG14, 132 PG15, 141 PE0, 142 PE1
part C pins: 6 VBAT, 16 VSS1, 17 VDD1, 30 VDD2, 31 VSSA, 32 VREF+, 33 VDDA, 38 VSS2, 39 VDD3, 51 VSS3, 52 VDD4, 61 VSS4, 62 VDD5, 71 VCAP_1, 72 VDD6, 83 VSS5, 84 VDD7, 94 VSS6, 95 VDDUSB, 106 VCAP_2, 107 VSS7, 108 VDD8, 120 VSS8, 121 VDDSDMMC, 130 VSS9, 131 VDD9, 144 VDD10

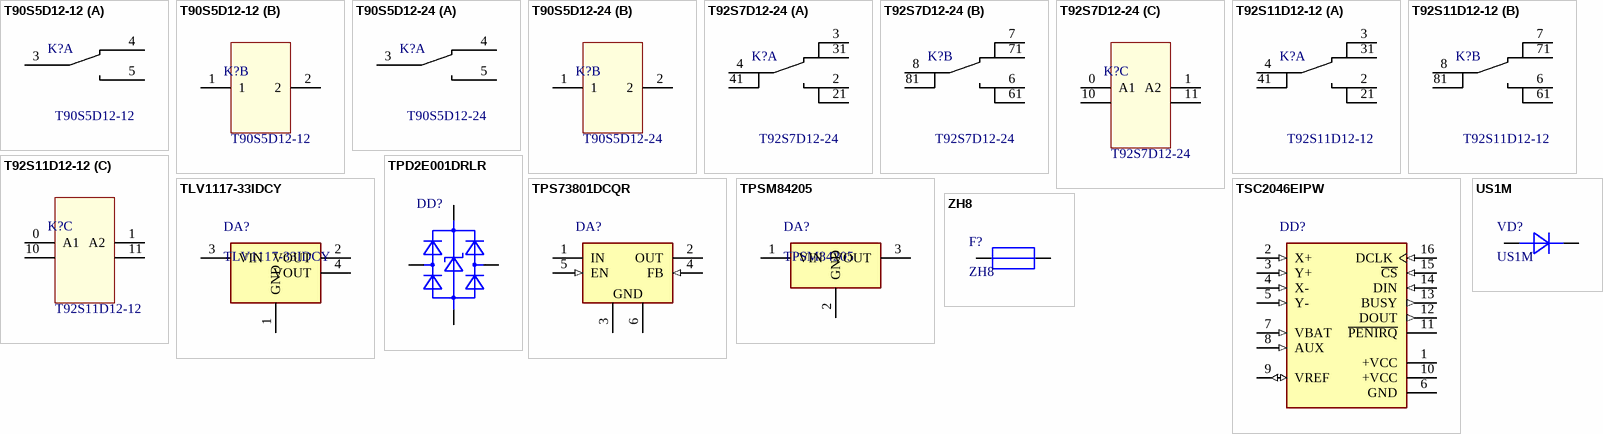
[diagram p2: symbols T90S5D12-12 to ZH8]

## T90S5D12-12
designator K?
277VAC 30A SPDT 12VDC; PartNumber: 2-1393209-8; Manufacturer: TE Connectivity; Value: T90S5D12-12
footprint T90S5D12
part A pins: 3, 4, 5
part B pins: 1, 2
1 alternate drawing of the same symbol

## T90S5D12-24
designator K?
277VAC 30A SPDT 24VDC; PartNumber: 3-1393209-1; Manufacturer: TE Connectivity; Value: T90S5D12-24
footprint T90S5D12
part A pins: 3, 4, 5
part B pins: 1, 2
1 alternate drawing of the same symbol

## T92S7D12-24
designator K?
400VAC 30A DPDT 24VDC; PartNumber: 1-1393212-0; Manufacturer: TE Connectivity; Value: T92S7D12-24
footprint T92S7D12-24
part A pins: 2, 3, 4, 21, 31, 41
part B pins: 6, 7, 8, 61, 71, 81
part C pins: 0 A1, 1 A2, 10 A1, 11 A2
1 alternate drawing of the same symbol

## T92S11D12-12
designator K?
400VAC 30A DPDT 12VDC; PartNumber: 8-1393211-9; Manufacturer: TE Connectivity; Value: T92S11D12-12
footprint T92S7D12-24
part A pins: 2, 3, 4, 21, 31, 41
part B pins: 6, 7, 8, 61, 71, 81
part C pins: 0 A1, 1 A2, 10 A1, 11 A2
1 alternate drawing of the same symbol

## TLV1117-33IDCY
designator DA?
Voltage regulator 3.3V 800mA; Manufacturer: Texas Instrument; PartNumber: TLV1117-33IDCY
footprint SOT223 (DCY) (SOT223, 4-Leads, Body 6,50x7,00mm (avg), Pitch 2,30mm, IPC Medium Density)
pins: 1 GND (power), 2 VOUT (power), 3 VIN (power), 4 VOUT (power)

## TPD2E001DRLR
designator DD?
Low-Capacitance + / - 15 kV ESD-Protection Array for High-Speed Data Interfaces, 2 Channels, -40 to +85 degC, 5-pin SOT (DRL), Green (RoHS & no Sb/Br); Manufacturer: Texas Instruments; PartNumber: TPD2E001DRLR
footprint DRL5_M (SOTFL, 5-Flat Leads, Body 1.2x1.6x0.6mm, Pitch 0.5mm, IPC Low Density)
pins: 1 VCC (power), 3 IO1, 4 GND (power), 5 IO2

## TPS73801DCQR
designator DA?
1A Low Noise, Low-Dropout Linear Regulator; Manufacturer: Texas Instruments; PartNumber: TPS73801DCQR
footprint TI-DCQ6_M (SOT223, 6-Leads, Body 6.5x3.5mm, Pitch 1.27mm, IPC Low Density)
pins: 1 IN (power) "Input. Power is supplied to the device through the IN pin. A bypass capacitor is required on this pin if the device is more than six inches away from the main input filter capacitor. In general, the output impedance of a (See Datasheet)", 2 OUT (power) "Output. The output supplies power to the load. A minimum output capacitor (ceramic) of 10 uF is required to prevent oscillations. Larger output capacitors are required for applications with large transient loads to limit (See Datasheet)", 3 GND (power) "Ground", 4 FB (in) "Feedback. This is the input to the error amplifier. This pin is internally clamped to +/-7 V. It has a bias current of 3 uA that flows into the pin. The FB pin voltage is 1.21 V referenced to ground, and the output voltage (See Datasheet)", 5 EN (in) "Enable. The EN pin is used to put the TPS73801 regulators into a low-power shutdown state. The output is off when the EN pin is pulled low. The EN pin can be driven either by 5-V logic or open-collector gate, normally (See Datasheet)", 6 GND (power) "Ground"

## TPSM84205
designator DA?
1.5A 5Vout up to 28 Vin StepDown module; Manufacturer: Texas Instrument; PartNumber: TPSM84205
footprint EAB (SIP DCDC Module)
pins: 1 VIN (power), 2 GND (power), 3 VOUT (power)

## TSC2046EIPW
designator DD?
Touch Screen Controller with Serial Interface; Manufacturer: Texas Instruments; PartNumber: TSC2046EIPW
footprint PW0016A_M (TSSOP (R-PDSO-G16), 16-Leads, Body 5.1x4.5mm, Pitch 0.65mm)
pins: 1 +VCC (power) "Power Supply Input. The +VCC range for the AD7873 is from 2.2 V to 5.25 V. Both +VCC pins should be connected directly together.", 2 X+ (in) "X+ Position Input. ADC Input Channel 1.", 3 Y+ (in) "Y+ Position Input. ADC Input Channel 2.", 4 X- (in) "X- Position Input.", 5 Y- (in) "Y- Position Input. ADC Input Channel 3.", 6 GND (power) "Analog Ground. Ground reference point for all circuitry on the AD7873. All analog input signals and any external reference signals should be referred to this GND voltage.", 7 VBAT (in) "Battery Monitor Input. ADC Input Channel 4.", 8 AUX (in) "Auxiliary Input. ADC Input Channel 5.", 9 VREF (io) "Reference Output for the AD7873. Alternatively, an external reference can be applied to this input. The voltage range for the external reference is 1.0 V to +VCC. For specified performance, it is 2.5 V on the AD7873. The (See Datasheet)", 10 +VCC (power) "Power Supply Input. The +VCC range for the AD7873 is from 2.2 V to 5.25 V. Both +VCC pins should be connected directly together.", 11 ~{PENIRQ} (oc) "Pen Interrupt. CMOS logic open-drain output (requires 10 k ohm to 100 k ohm pull-up resistor externally).", 12 DOUT (out) "Data Out. Logic output. The conversion result from the AD7873 is provided on this output as a serial data stream. The bits are clocked out on the falling edge of the DCLK input. This output is high impedance when C\S\ is (See Datasheet)", 13 BUSY (out) "BUSY Output. Logic output. This output is high impedance when C\S\ is high.", 14 DIN (in) "Data In. Logic Input. Data to be written to the AD7873 control register is provided on this input and is clocked into the register on the rising edge of DCLK (see the Control Register section).", 15 ~{CS} (in) "Chip Select Input. Active low logic input. This input provides the dual function of initiating conversions on the AD7873 and enabling the serial input/output register.", 16 DCLK (in) "External Clock Input. Logic input. DCLK provides the serial clock for accessing data from the part. This clock input is also used as the clock source for the AD7873 conversion process."

## US1M
designator VD?
SMD Diod Vr=1000V If=1A; Manufacturer: VISHAY; PartNumber: US1M
footprint DO-214AC (SMA) (Molded Diode, 2-Leads, Body 4,25x2,67mm, IPC Low Density)
pins: 1 ANODE, 2 CATHODE

## ZH8
designator F?
Fuse Holder 5x20; Manufacturer: PROFFUSE; PartNumber: ZH8
footprint ZH8 (Fuse Holder)
pins: 1, 2, 3, 4